# Altium footprint library 3.5inch_48pin_QD3503.PcbLib: 1 footprints
Each footprint in its own frame and in the unit in brackets; x right, y up, seen from the top. Pads: shape width x height; smd on the part's side, far side on the other; paste and mask are expansions set on the pad; w line width, h text height; cw(c..) or ccw(c..) is an arc to the next point about the centre after c.
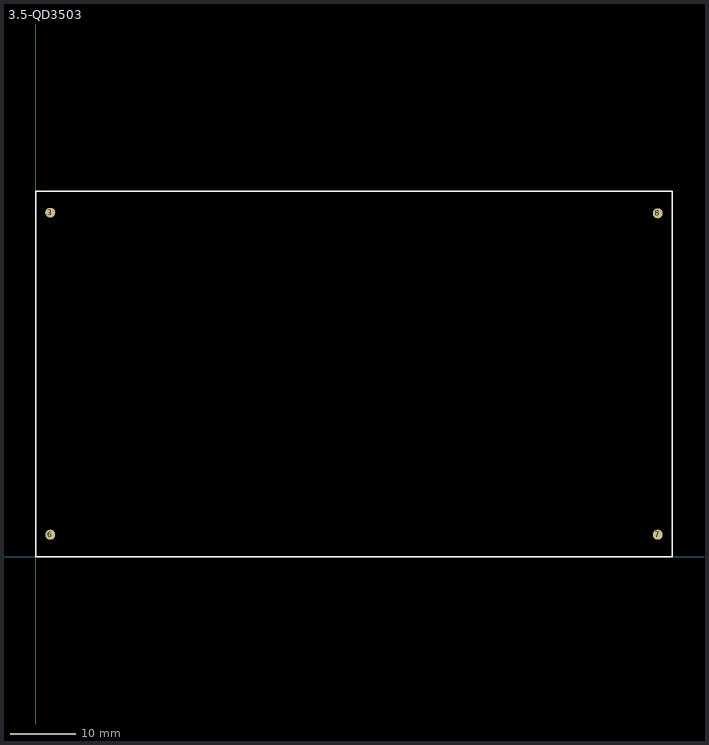
[diagram p0: the footprint, top view; thin cyan lines are the x and y axes]

## 3.5-QD3503 [mm] "3.5 TFT LCD"
pads (4):
  oval 1.55x1.5 all layers, no hole: 3(2.22,53.02)
  oval 1.5x1.55 all layers, no hole: 6(2.22,3.42) 7(95.78,3.42) 8(95.78,52.92)
Top Overlay:
  lines w0.254: 0,0 98,0 98,56.34 0,56.34 0,0